# EAGLE library part LT1618EMSTRPBF (library U-Linear-LT1618E-Boost)
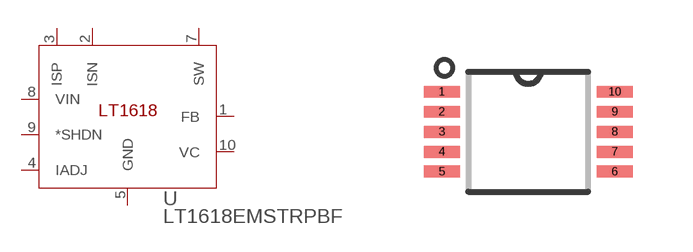
[diagram p0: symbol with the pads of MSOP-10_MS; footprint MSOP-10_MS]

Designator prefix U

## LT1618EMSTRPBF (DESCRIPTION: PMIC - DC/DC voltage regulator Linear Technology LT1618EMS#TRPBF Converter, Boost, Converter/amplifier, SEPIC MSOP 10; DIGI-KEY_PART_NUMBER: LT1618EMS#TRPBFCT-ND; DIGI-KEY_PURCHASE_URL: https://www.digikey.com/product-detail/en/linear-technology-analog-devices/LT1618EMS-TRPBF/LT1618EMS-TRPBFCT-ND/3885220?utm_source=snapeda&utm_medium=aggregator&utm_campaign=symbol; MF: Linear Technology/Analog; MP: LT1618EMS#TRPBF; PACKAGE: MSOP-10 Linear Technology)  [MSOP-10_MS]
1  FB  in
2  ISN  pas
3  ISP  pas
4  IADJ  in
5  GND  pwr
7  SW  out
8  VIN  pwr
9  *SHDN  in
10  VC  pas

## Footprint MSOP-10_MS (pad centres in mm)
smd 0.9 x 0.3: 1 -2.165,1; 2 -2.165,0.5; 3 -2.165,0; 4 -2.165,-0.5; 5 -2.165,-1; 6 2.165,-1; 7 2.165,-0.5; 8 2.165,0; 9 2.165,0.5; 10 2.165,1